# Altium integrated library COMSYS301_2013.IntLib: 13 symbols
Pins are listed as number, name and electrical type; pins without a type are passive.

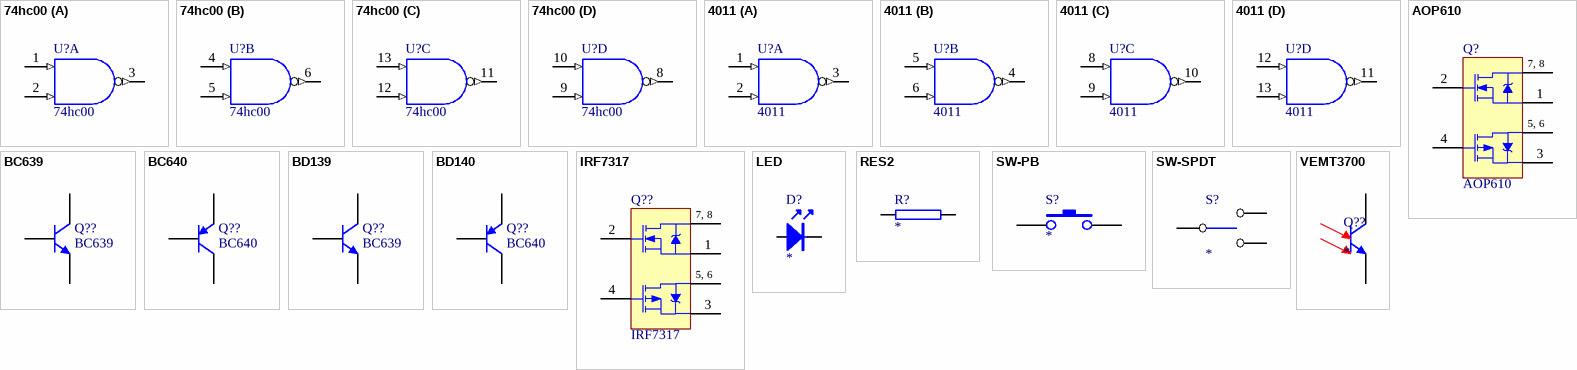
[diagram p0: symbols 74hc00 to VEMT3700]

## 74hc00
designator U?
Quad 2-Input NAND Gate, 14-Pin PDIP, Commercial Grade
footprint 74hc00
pins on every part: 7 GND (power) hidden to GND, 14 VCC (power) hidden to VCC
part A pins: 1 A (in), 2 B (in), 3 ~{O} (out)
part B pins: 4 A (in), 5 B (in), 6 ~{O} (out)
part C pins: 11 ~{O} (out), 12 B (in), 13 A (in)
part D pins: 8 ~{O} (out), 9 B (in), 10 A (in)

## 4011
designator U?
Quad 2-Input NAND Buffered B series Gate, 14-Pin PDIP
footprint 4011
pins on every part: 7 GND (power) hidden to GND, 14 VDD (power) hidden to VDD
part A pins: 1 A (in), 2 B (in), 3 J (out)
part B pins: 4 J (out), 5 A (in), 6 B (in)
part C pins: 8 A (in), 9 F (in), 10 J (out)
part D pins: 11 J (out), 12 A (in), 13 B (in)

## AOP610
designator Q?
HEXFET Power MOSFET; Published: 8-Jun-2000; LatestRevisionDate: 13-Apr-2006; LatestRevisionNote: IPC-7351 Footprint Added.; DatasheetVersion: Dec-1997; PackageVersion: Feb-2001; PackageReference: SO-8; Publisher: Altium Limited; PackageDescription: 8-Pin Plastic Small Outline Integrated Circuit 1.27 mm Pitch; Code_JEDEC: MS-012-AA; Code_IPC: SOIC127P600-8; ComponentLink1Description: Manufacturer Link; ComponentLink1URL: http://www.irf.com/; ComponentLink2Description: Datasheet; ComponentLink2URL: http://www.irf.com/product-info/datasheets/data/IRFN140.pdf
footprint DIP8
pins: 1 S1, 2 G1, 3 S2, 4 G2, 5 D2, 6 D2, 7 D1, 8 D1
text: 7, 8; 5, 6

## BC639
designator Q??
High Current Transistor NPN Silicon; PackageDocument: 1996; Published: 29-Sep-2000; LatestRevisionDate: 17-Jul-2002; LatestRevisionNote: Re-released for DXP Platform.; DatasheetDocument: Nov-1999; PackageReference: 29-04; Publisher: Altium Limited; ComponentLink1Description: Manufacturer Link; ComponentLink1URL: http://www.motorola.com/
footprint TO-92R
pins: 1 B, 2 C, 3 E

## BC640
designator Q??
High Current Transistor NPN Silicon; PackageDocument: 1996; Published: 29-Sep-2000; LatestRevisionDate: 17-Jul-2002; LatestRevisionNote: Re-released for DXP Platform.; DatasheetDocument: 1996; PackageReference: 29-04; Publisher: Altium Limited; ComponentLink1Description: Manufacturer Link; ComponentLink1URL: http://www.motorola.com/
footprint TO-92R
pins: 1 B, 2 C, 3 E

## BD139
designator Q??, comment BC639
High Current Transistor NPN Silicon; PackageDocument: 1996; Published: 29-Sep-2000; LatestRevisionDate: 17-Jul-2002; LatestRevisionNote: Re-released for DXP Platform.; DatasheetDocument: Nov-1999; PackageReference: 29-04; Publisher: Altium Limited; ComponentLink1Description: Manufacturer Link; ComponentLink1URL: http://www.motorola.com/
footprint TO~126
footprint TO~126S
pins: 1 B, 2 C, 3 E

## BD140
designator Q??, comment BC640
High Current Transistor NPN Silicon; PackageDocument: 1996; Published: 29-Sep-2000; LatestRevisionDate: 17-Jul-2002; LatestRevisionNote: Re-released for DXP Platform.; DatasheetDocument: 1996; PackageReference: 29-04; Publisher: Altium Limited; ComponentLink1Description: Manufacturer Link; ComponentLink1URL: http://www.motorola.com/
footprint TO~126
footprint TO~126S
pins: 1 B, 2 C, 3 E

## IRF7317
designator Q??
HEXFET Power MOSFET; Published: 8-Jun-2000; LatestRevisionDate: 4-Mar-2005; LatestRevisionNote: Stylized 3D Model Added.; DatasheetDocument: 25-Aug-1997; PackageDocument: 22-Feb-2001; PackageReference: SO-8; Publisher: Altium Limited; Code_JEDEC: MS-012-AA; ComponentLink1Description: Manufacturer Link; ComponentLink1URL: http://www.irf.com/
simulation model IRF7317 (SUBCKT)
footprint IRF7317
pins: 1 S1, 2 G1, 3 S2, 4 G2, 5 D2, 6 D2, 7 D1, 8 D1
text: 7, 8; 5, 6

## LED
designator D?
footprint Model Name (Footprint not found)
footprint LED0.1/5MM
pins: A 1, K 2

## RES2
designator R?
footprint AXIAL0.4
pins: 1, 2

## SW-PB
designator S?
Push Button Switch
footprint SW-PB
pins: 1, 2

## SW-SPDT
designator S?
Toggle Switch
footprint SW-SPDT
pins: 1, 2, 3

## VEMT3700
designator Q??
Silicon NPN Phototransistor
footprint VEMT3700
pins: 1 C, 2 E